# Altium schematic symbol library W25Q64JV_SOIC_8P_B.SchLib: 1 symbol
Pins are listed as number, name and electrical type; pins without a type are passive.

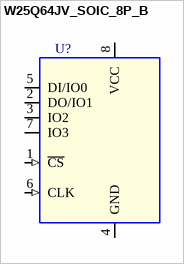
[diagram p0: symbol W25Q64JV_SOIC_8P_B]

## W25Q64JV_SOIC_8P_B
designator U?
IC MEM SERIAL FLASH DUAL/QUAD SPI 64MBIT 2.7-3.6V SOIC8
pins: 1 ~{CS} (in), 2 DO/IO1 (io), 3 IO2 (io), 4 GND (power), 5 DI/IO0 (io), 6 CLK (in), 7 IO3 (io), 8 VCC (power)